# Altium footprint library Tray2.PcbLib: 104 footprints (part 4 of 7)
Each footprint in its own frame and in the unit in brackets; x right, y up, seen from the top. Pads: shape width x height; smd on the part's side, far side on the other; paste and mask are expansions set on the pad; w line width, h text height; cw(c..) or ccw(c..) is an arc to the next point about the centre after c.
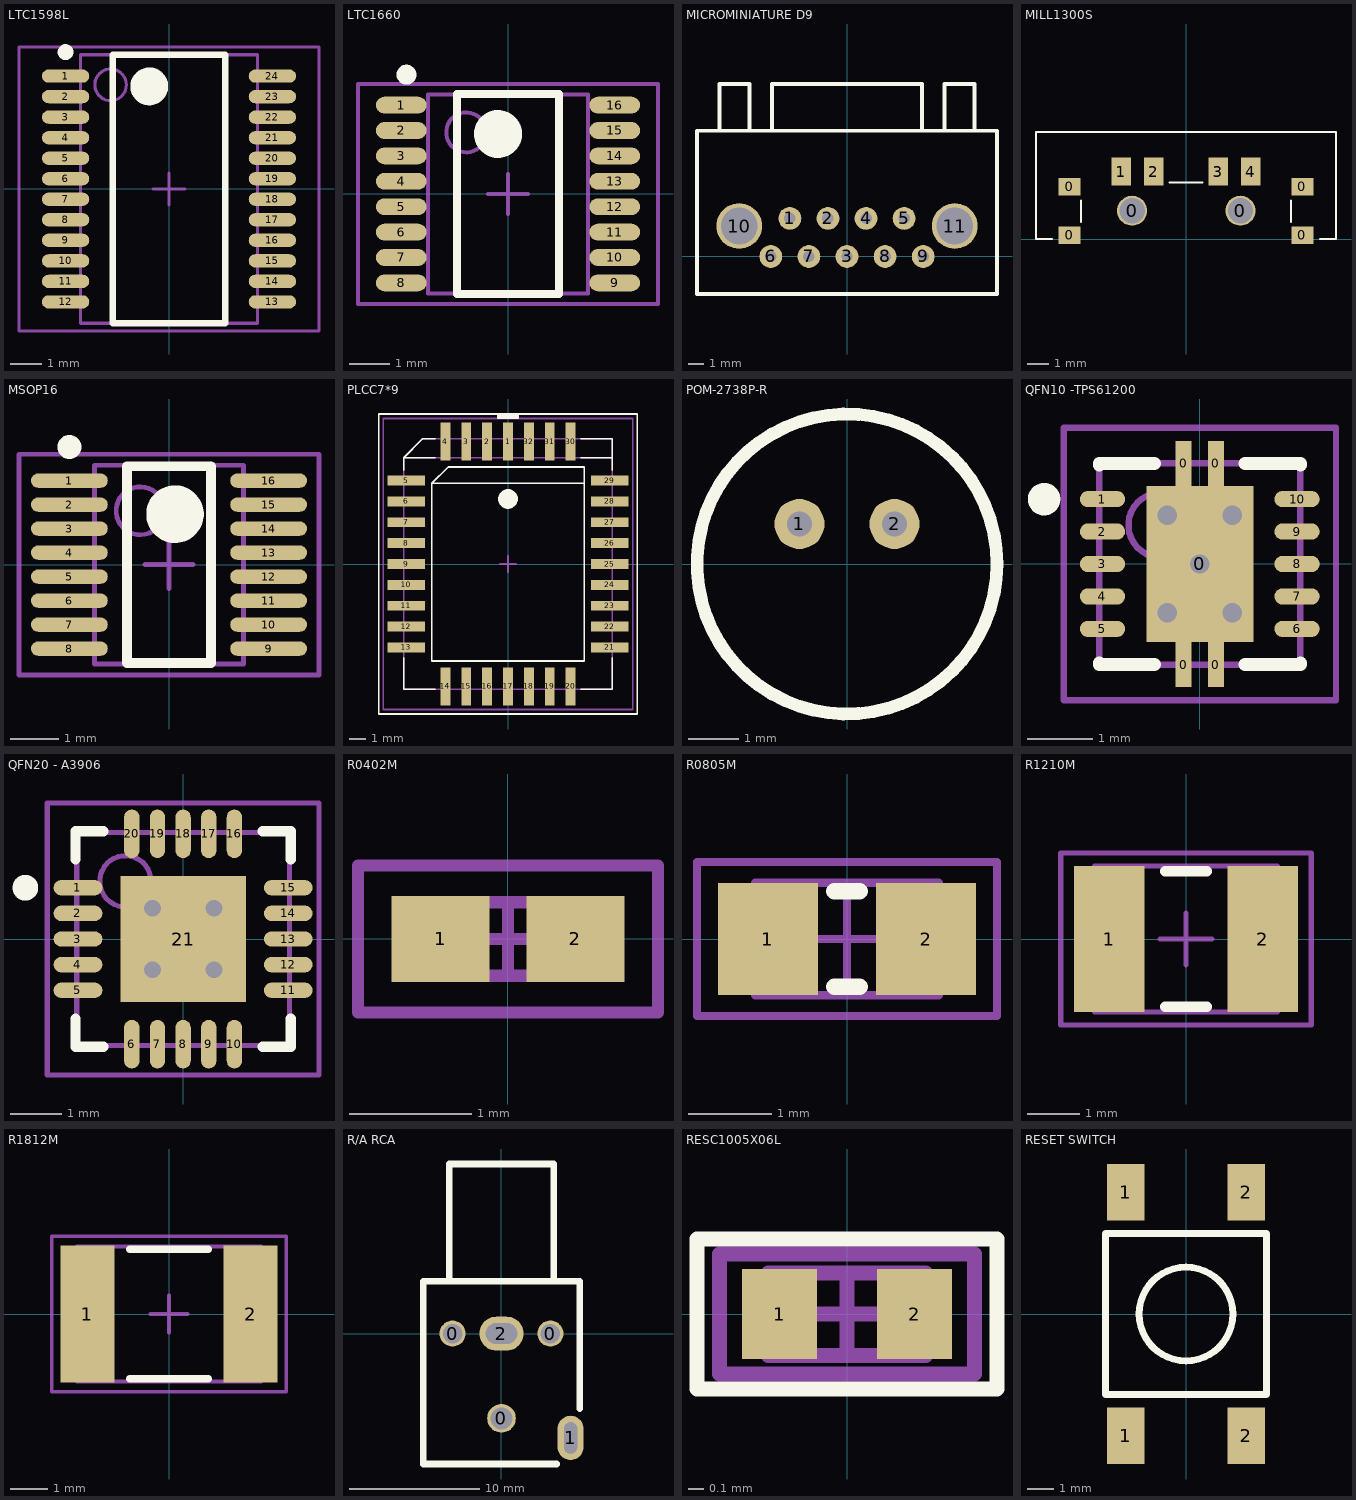
[diagram p3: the footprints below, top view; thin cyan lines are the x and y axes]

## LTC1598L [mm]
height 2
pads (24):
  oval 1.5x0.42 smd: 1(-3.275,3.575) 2(-3.275,2.925) 3(-3.275,2.275) 4(-3.275,1.625) 5(-3.275,0.975) 6(-3.275,0.325) 7(-3.275,-0.325) 8(-3.275,-0.975) 9(-3.275,-1.625) 10(-3.275,-2.275) 11(-3.275,-2.925) 12(-3.275,-3.575) 13(3.275,-3.575) 14(3.275,-2.925) 15(3.275,-2.275) 16(3.275,-1.625) 17(3.275,-0.975) 18(3.275,-0.325) 19(3.275,0.325) 20(3.275,0.975) 21(3.275,1.625) 22(3.275,2.275) 23(3.275,2.925) 24(3.275,3.575)
Top Overlay:
  circle w0.25: c-3.275,4.335 r0.125
  circle w0.6: c-0.625,3.25 r0.3
  lines w0.2: -1.778,-4.25 -1.778,4.25 1.778,4.25 1.778,-4.25 -1.778,-4.25
Mechanical 13:
  circle w0.1: c-1.85,3.3 r0.5
  lines w0.1: -2.8,-4.25 -2.8,4.25 2.8,4.25 2.8,-4.25 -2.8,-4.25
Mechanical 15:
  lines w0.1: -0.5,0 0.5,0 ; 0,-0.5 0,0.5 ; -4.75,-4.5 -4.75,4.5 4.75,4.5 4.75,-4.5 -4.75,-4.5
3D body: height 2, standoff 0.25, extent -2.8,-4.25 2.8,4.25

## LTC1660 [mil]
height 68.9
pads (16):
  oval 50x16.5 smd: 1(-105,87.5) 2(-105,62.5) 3(-105,37.5) 4(-105,12.5) 5(-105,-12.5) 6(-105,-37.5) 7(-105,-62.5) 8(-105,-87.5) 9(105,-87.5) 10(105,-62.5) 11(105,-37.5) 12(105,-12.5) 13(105,12.5) 14(105,37.5) 15(105,62.5) 16(105,87.5)
Top Overlay:
  circle w9.84: c-100,117.4 r4.92
  circle w23.62: c-9.84,59.06 r11.81
  lines w7.87: -50,-98.43 -50,98.43 50,98.43 50,-98.43 -50,-98.43
Mechanical 13:
  circle w3.94: c-41.14,60.63 r19.68
  lines w3.94: -78.54,-98.03 -78.54,98.03 78.54,98.03 78.54,-98.03 -78.54,-98.03
Mechanical 15:
  lines w3.94: -19.68,0 19.68,0 ; 0,-19.68 0,19.68 ; -147.64,-108.27 -147.64,108.27 147.64,108.27 147.64,-108.27 -147.64,-108.27
3D body: height 68.9, standoff 9.84, extent -78.54,-98.03 78.54,98.03

## MICROMINIATURE D9 [mil] "GLENAIR MICRO-D9"
pads (11):
  round 60 hole 30: 1(-150,100) 2(-50,100) 3(0,0) 4(50,100) 5(150,100) 6(-200,0) 7(-100,0) 8(100,0) 9(200,0)
  round 120 hole 96: 10(-283,80) 11(283,80)
Top Overlay:
  lines w10: -255.91,330 -255.91,452.76 -334.65,452.76 -334.65,330 0,330 ; -196.85,330 -196.85,452.76 196.85,452.76 196.85,330 0,330 ; 255.91,330 255.91,334.65 255.91,452.76 334.65,452.76 334.65,330 0,330 ; 0,330 393.7,330 393.7,-98.43 -393.7,-98.43 -393.7,78.74 -393.7,330 0,330

## MILL1300S [mil]
pads (10):
  rect 40x32 smd: 0(-214,7) 0(-214,96) 0(214,7) 0(214,96)
  round 55.12 hole 46.46 paste+0 mask+0: 0(-99,52) 0(100,52)
  rect 36x52 smd: 1(-119,124) 2(-59,124) 3(59,124) 4(119,124)
Top Overlay:
  lines w3.94: -246.06,0 -275.59,0 -275.59,196.85 275.59,196.85 275.59,0 246.06,0 ; -193,31.5 -193,70.87 ; -30,104 30,104 ; 193,31.5 193,70.87
3D body: height 55.91, standoff -20.08, extent -212.99,-60.24 212.99,139.37

## MSOP16 [mm] "TSSOP, 16-Leads, Body 4.1x3.1mm (max), Pitch 0.50mm, IPC Medium Density"
height 1.1
pads (16):
  oval 1.6x0.3 smd: 1(-2.075,1.75) 2(-2.075,1.25) 3(-2.075,0.75) 4(-2.075,0.25) 5(-2.075,-0.25) 6(-2.075,-0.75) 7(-2.075,-1.25) 8(-2.075,-1.75) 9(2.075,-1.75) 10(2.075,-1.25) 11(2.075,-0.75) 12(2.075,-0.25) 13(2.075,0.25) 14(2.075,0.75) 15(2.075,1.25) 16(2.075,1.75)
Top Overlay:
  circle w0.25: c-2.075,2.45 r0.125
  circle w0.6: c0.125,1.05 r0.3
  lines w0.2: -0.875,-2.05 -0.875,2.05 0.875,2.05 0.875,-2.05 -0.875,-2.05
Mechanical 13:
  circle w0.1: c-0.6,1.12 r0.5
  lines w0.1: -1.55,-2.07 -1.55,2.07 1.55,2.07 1.55,-2.07 -1.55,-2.07
Mechanical 15:
  lines w0.1: -0.5,0 0.5,0 ; 0,-0.5 0,0.5 ; -3.125,-2.3 -3.125,2.3 3.125,2.3 3.125,-2.3 -3.125,-2.3
3D body: height 1.1, standoff 0.1, extent -1.55,-2.07 1.55,2.07

## PLCC7*9 [mm] "PLCC, 32-Leads, Body 15.1x15.1mm (max), Pitch 1.270mm, IPC Medium Density"
height 3.556
pads (32):
  rect 0.6x2.3 smd: 1(0,7.46) 2(-1.27,7.46) 3(-2.54,7.46) 4(-3.81,7.46) 14(-3.81,-7.46) 15(-2.54,-7.46) 16(-1.27,-7.46) 17(0,-7.46) 18(1.27,-7.46) 19(2.54,-7.46) 20(3.81,-7.46) 30(3.81,7.46) 31(2.54,7.46) 32(1.27,7.46)
  rect 2.3x0.6 smd: 5(-6.19,5.08) 6(-6.19,3.81) 7(-6.19,2.54) 8(-6.19,1.27) 9(-6.19,0) 10(-6.19,-1.27) 11(-6.19,-2.54) 12(-6.19,-3.81) 13(-6.19,-5.08) 21(6.19,-5.08) 22(6.19,-3.81) 23(6.19,-2.54) 24(6.19,-1.27) 25(6.19,0) 26(6.19,1.27) 27(6.19,2.54) 28(6.19,3.81) 29(6.19,5.08)
Top Overlay:
  circle w0.6: c0,3.96 r0.3
  region: 0.635,8.885 0.635,9.135 -0.615,9.135 -0.615,8.885
  lines w0.1: -6.35,-5.715 -6.35,-7.62 -4.445,-7.62 ; -6.35,5.715 -6.35,6.477 ; -4.445,6.477 -6.35,6.477 ; -4.445,7.62 -5.207,7.62 -6.35,6.477 ; 4.445,-7.62 6.35,-7.62 6.35,-5.715 ; 4.445,6.477 6.35,6.477 ; 4.445,7.62 6.35,7.62 6.35,5.715 ; 4.615,4.91 -4.64,4.91 ; -4.64,4.91 -3.64,5.91 ; -4.64,4.91 -3.64,5.91 ; -4.64,4.91 -4.64,-5.91 4.64,-5.91 4.64,5.91 -3.64,5.91 ; -7.865,-9.135 7.865,-9.135 7.865,9.135 -7.865,9.135 -7.865,-9.135 ; -0.615,8.885 -0.615,9.135 0.635,9.135 0.635,8.885 -0.615,8.885
Mechanical 13:
  lines w0.1: 6.35,6.477 -6.35,6.477 ; -6.35,6.477 -5.207,7.62 6.35,7.62 6.35,-7.62 -6.35,-7.62 -6.35,6.477
Mechanical 15:
  lines w0.1: -0.492,0 0.508,0 ; 0,-0.5 0,0.5 ; -7.59,-8.86 7.59,-8.86 7.59,8.86 -7.59,8.86 -7.59,-8.86
3D body: height 3.56, standoff 0.38, extent -6.35,-7.62 6.35,7.62

## POM-2738P-R [mm]
pads (2):
  round 1 hole 0.5: 1(-0.95,0.8) 2(0.95,0.8)
Top Overlay:
  circle w0.254: c0,0 r3
Bottom Overlay:
  circle w0.254: c0,0 r3
3D body: height 2.7, standoff 2.6, extent -2.778,-2.794 2.8,2.794
3D body: height 2.6, standoff 0, extent -2.976,-2.994 3,2.994

## QFN10 -TPS61200 [mm] "QFN, 14-Leads, Body 3.1x3.1mm (max), Pitch 0.50mm, IPC Medium Density"
height 1
pads (15):
  rect 0.25x0.7 smd: 0(-0.25,-1.55) 0(-0.25,1.55) 0(0.25,-1.55) 0(0.25,1.55)
  rect 1.65x2.4 smd: 0(0,0)
  oval 0.7x0.25 smd: 1(-1.5,1) 2(-1.5,0.5) 3(-1.5,0) 4(-1.5,-0.5) 5(-1.5,-1) 6(1.5,-1) 7(1.5,-0.5) 8(1.5,0) 9(1.5,0.5) 10(1.5,1)
via -0.5,0.75 diameter 0.5 hole 0.3
via 0,0 diameter 0.5 hole 0.3
via 0.5,0.75 diameter 0.5 hole 0.3
via 0.5,-0.75 diameter 0.5 hole 0.3
via -0.5,-0.75 diameter 0.5 hole 0.3
Top Overlay:
  circle w0.25: c-2.4,1 r0.125
  lines w0.2: -1.55,-1.525 -1.55,-1.55 -0.7,-1.55 ; -1.55,1.525 -1.55,1.55 -0.7,1.55 ; 0.7,-1.55 1.55,-1.55 1.55,-1.525 ; 0.7,1.55 1.55,1.55 1.55,1.525
Mechanical 13:
  circle w0.1: c-0.6,0.6 r0.5
  lines w0.1: -1.55,-1.55 -1.55,1.55 1.55,1.55 1.55,-1.55 -1.55,-1.55
Mechanical 15:
  lines w0.1: -0.5,0 0.5,0 ; 0,-0.5 0,0.5 ; -2.1,-2.1 -2.1,2.1 2.1,2.1 2.1,-2.1 -2.1,-2.1
3D body: height 1, standoff 0.01, extent -1.55,-1.55 1.55,1.55

## QFN20 - A3906 [mm] "QFN, 20-Leads, Body 4.2x4.2mm (max), Pitch 0.50mm, IPC Medium Density"
height 0.8
pads (21):
  oval 0.95x0.3 smd mask+0.05: 1(-2.05,1) 2(-2.05,0.5) 3(-2.05,0) 4(-2.05,-0.5) 5(-2.05,-1) 11(2.05,-1) 12(2.05,-0.5) 13(2.05,0) 14(2.05,0.5) 15(2.05,1)
  oval 0.3x0.95 smd mask+0.05: 6(-1,-2.05) 7(-0.5,-2.05) 8(0,-2.05) 9(0.5,-2.05) 10(1,-2.05) 16(1,2.05) 17(0.5,2.05) 18(0,2.05) 19(-0.5,2.05) 20(-1,2.05)
  rect 2.45x2.45 smd: 21(0,0)
via 0.6,-0.6 diameter 0.66 hole 0.33
via -0.6,-0.6 diameter 0.66 hole 0.33
via 0.6,0.6 diameter 0.66 hole 0.33
via -0.6,0.6 diameter 0.66 hole 0.33
Top Overlay:
  circle w0.25: c-3.075,1 r0.125
  lines w0.2: -2.1,-1.55 -2.1,-2.1 -1.55,-2.1 ; -2.1,1.55 -2.1,2.1 -1.55,2.1 ; 1.55,-2.1 2.1,-2.1 2.1,-1.55 ; 1.55,2.1 2.1,2.1 2.1,1.55
Mechanical 13:
  circle w0.1: c-1.125,1.125 r0.5
  lines w0.1: -2.075,-2.075 2.075,-2.075 2.075,2.075 -2.075,2.075 -2.075,-2.075
Mechanical 15:
  lines w0.1: -0.5,0 0.5,0 ; 0,-0.5 0,0.5 ; -2.65,-2.65 2.65,-2.65 2.65,2.65 -2.65,2.65 -2.65,-2.65
3D body: height 0.8, standoff 0.01, extent -2.075,-2.075 2.075,2.075

## R0402M [mm] "Chip Resistor, 2-Leads, Body 1.0x0.5mm, IPC Medium Density"
height 0.6
pads (2):
  rect 0.8x0.7 smd: 1(-0.55,0) 2(0.55,0)
Mechanical 13:
  lines w0.1: -0.55,-0.3 0.55,-0.3 0.55,0.3 -0.55,0.3 -0.55,-0.3
Mechanical 15:
  lines w0.1: -0.3,0 0.3,0 ; 0,-0.3 0,0.3 ; -1.225,-0.6 1.225,-0.6 1.225,0.6 -1.225,0.6 -1.225,-0.6
3D body: height 0.6, standoff 0, extent -0.55,-0.3 0.55,0.3

## R0805M [mm] "Chip Resistor, 2-Leads, Body 2.0x1.3mm, IPC Medium Density"
height 0.6
pads (2):
  rect 1.2x1.35 smd: 1(-0.95,0) 2(0.95,0)
Top Overlay:
  lines w0.2: -0.15,-0.575 0.15,-0.575 ; -0.15,0.575 0.15,0.575
Mechanical 13:
  lines w0.1: -1.1,-0.675 -1.1,0.675 1.1,0.675 1.1,-0.675 -1.1,-0.675
Mechanical 15:
  lines w0.1: -0.5,0 0.5,0 ; 0,-0.5 0,0.5 ; -1.8,-0.925 -1.8,0.925 1.8,0.925 1.8,-0.925 -1.8,-0.925
3D body: height 0.6, standoff 0, extent -1.1,-0.675 1.1,0.675

## R1210M [mm] "Chip Capacitor, 2-Leads, Body 3.2x2.5mm, IPC Medium Density"
height 1.5
pads (2):
  rect 1.35x2.8 smd: 1(-1.475,0) 2(1.475,0)
Top Overlay:
  lines w0.2: -0.4,-1.3 0.4,-1.3 ; -0.4,1.3 0.4,1.3
Mechanical 13:
  lines w0.1: -1.75,-1.4 1.75,-1.4 1.75,1.4 -1.75,1.4 -1.75,-1.4
Mechanical 15:
  lines w0.1: -0.5,0 0.5,0 ; 0,-0.5 0,0.5 ; -2.4,-1.65 2.4,-1.65 2.4,1.65 -2.4,1.65 -2.4,-1.65
3D body: height 1.5, standoff 0, extent -1.75,-1.4 1.75,1.4

## R1812M [mm]
height 2
pads (2):
  rect 1.45x3.65 smd: 1(-2.175,0) 2(2.175,0)
Top Overlay:
  lines w0.2: -1.05,-1.725 1.05,-1.725 ; -1.05,1.725 1.05,1.725
Mechanical 13:
  lines w0.1: -2.45,-1.8 2.45,-1.8 2.45,1.8 -2.45,1.8 -2.45,-1.8
Mechanical 15:
  lines w0.1: -0.5,0 0.5,0 ; 0,-0.5 0,0.5 ; -3.125,-2.075 3.125,-2.075 3.125,2.075 -3.125,2.075 -3.125,-2.075
3D body: height 2, standoff 0, extent -2.45,-1.8 2.45,1.8

## R/A RCA [mm] "LUMBERG - WBTOR 1"
height 13
pads (5):
  round 2 hole 1.5: 0(-3.75,0) 0(3.75,0)
  round 2.2 hole 1.7: 0(0,-6.5)
  oval 2x3.4 hole 1 slot 2.4 at 90 deg: 1(5.3,-8)
  oval 3.4x2.6 hole 1.6 slot 2.4 at 0 deg: 2(0,0)
Top Overlay:
  lines w0.5: 4.25,-10 0,-10 -6,-10 -6,4 -4,4 ; 6,-5.75 6,4 4,4 ; -4,4 0,4 4,4 ; -4,4 -4,13 4,13 4,4

## RESC1005X06L [mm] "Chip Resistor, 2-Leads, Body 1.0x0.5mm, IPC High Density"
height 0.55
pads (2):
  rect 0.5x0.6 smd: 1(-0.45,0) 2(0.45,0)
Top Overlay:
  lines w0.1: -1,-0.5 1,-0.5 1,0.5 -1,0.5 -1,-0.5
Mechanical 13:
  lines w0.1: -0.525,-0.275 -0.525,0.275 0.525,0.275 0.525,-0.275 -0.525,-0.275
Mechanical 15:
  lines w0.1: -0.275,0 0.275,0 ; 0,-0.275 0,0.275 ; -0.85,-0.4 0.85,-0.4 0.85,0.4 -0.85,0.4 -0.85,-0.4
3D body: height 0.55, standoff 0, extent -0.525,-0.275 0.525,0.275

## RESET SWITCH [mm]
pads (4):
  rect 1.4x2.1 smd: 1(-2.25,-4.55) 1(-2.25,4.55) 2(2.25,-4.55) 2(2.25,4.55)
Top Overlay:
  circle w0.254: c0,0 r1.75
  lines w0.254: -3,-3 3,-3 3,3 -3,3 -3,-3